# Altium schematic symbol library Fuse_1206.Schlib: 1 symbol
Pins are listed as number, name and electrical type; pins without a type are passive.

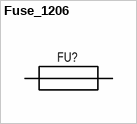
[diagram p0: symbol Fuse_1206]

## Fuse_1206
designator FU?
pins: 1, 2